# EAGLE library part MAX3238 (library max3238)
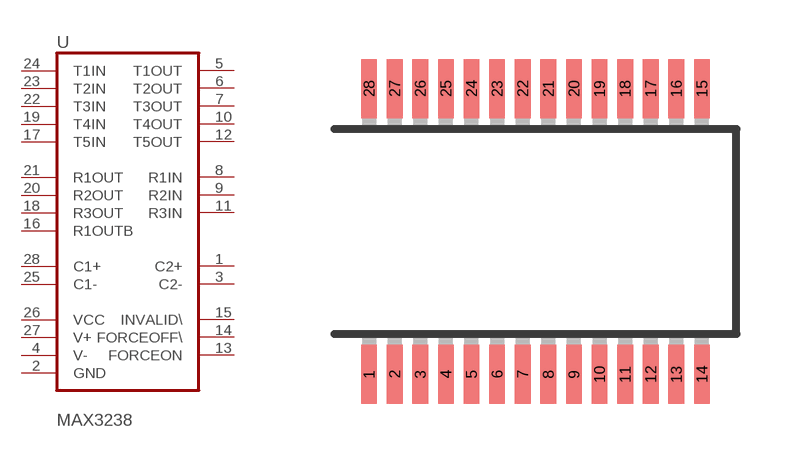
[diagram p0: symbol with the pads of SSOP28; footprint SSOP28]

Designator prefix -

## MAX3238  [SSOP28]
1  C2+  nc
2  GND
3  C2-  nc
4  V-  nc
5  T1OUT  out
6  T2OUT  out
7  T3OUT
8  R1IN  in
9  R2IN  in
10  T4OUT
11  R3IN
12  T5OUT
13  FORCEON  in
14  FORCEOFF\  in
15  INVALID\  out
16  R1OUTB
17  T5IN
18  R3OUT
19  T4IN
20  R2OUT  out
21  R1OUT  out
22  T3IN
23  T2IN  in
24  T1IN  in
25  C1-  nc
26  VCC  nc
27  V+  nc
28  C1+  nc

## Footprint SSOP28 (pad centres in mm)
smd 0.4 x 1.5: 1 2.125,2.725; 2 2.775,2.725; 3 3.425,2.725; 4 4.075,2.725; 5 4.725,2.725; 6 5.375,2.725; 7 6.025,2.725; 8 6.675,2.725; 9 7.325,2.725; 10 7.975,2.725; 11 8.625,2.725; 12 9.275,2.725; 13 9.925,2.725; 14 10.575,2.725; 15 10.575,9.975; 16 9.925,9.975; 17 9.275,9.975; 18 8.625,9.975; 19 7.975,9.975; 20 7.325,9.975; 21 6.675,9.975; 22 6.025,9.975; 23 5.375,9.975; 24 4.725,9.975; 25 4.075,9.975; 26 3.425,9.975; 27 2.775,9.975; 28 2.125,9.975